# EAGLE library part LED_DISPLAY_CLOCK_1080-1182-ND (library custom)
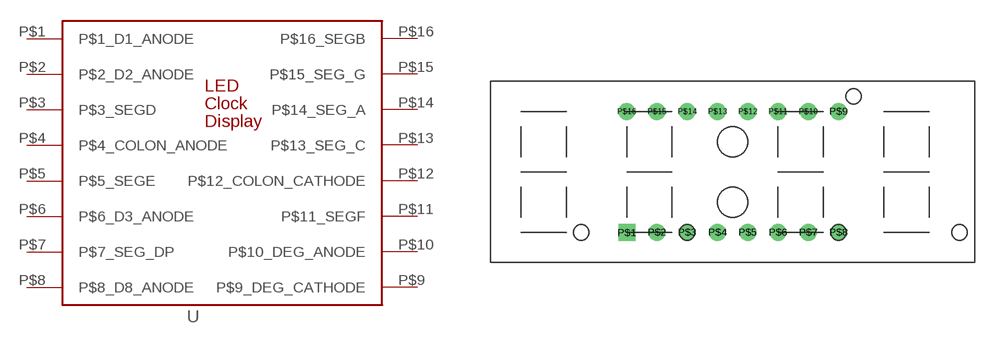
[diagram p41: symbol with the pads of LED_DISPLAY_CLOCK_1080-1182-ND; footprint LED_DISPLAY_CLOCK_1080-1182-ND]

Designator prefix -

## LED_DISPLAY_CLOCK_1080-1182-ND  [LED_DISPLAY_CLOCK_1080-1182-ND]
P$1  P$1_D1_ANODE
P$2  P$2_D2_ANODE
P$3  P$3_SEGD
P$4  P$4_COLON_ANODE
P$5  P$5_SEGE
P$6  P$6_D3_ANODE
P$7  P$7_SEG_DP
P$8  P$8_D8_ANODE
P$9  P$9_DEG_CATHODE
P$10  P$10_DEG_ANODE
P$11  P$11_SEGF
P$12  P$12_COLON_CATHODE
P$13  P$13_SEG_C
P$14  P$14_SEG_A
P$15  P$15_SEG_G
P$16  P$16_SEGB

## Footprint LED_DISPLAY_CLOCK_1080-1182-ND (pad centres in mm)
drill 0.914 square: P$1 -8.89,-5.08
drill 0.9 round: P$2 -6.35,-5.08; P$3 -3.81,-5.08; P$4 -1.27,-5.08; P$5 1.27,-5.08; P$6 3.81,-5.08; P$7 6.35,-5.08; P$8 8.89,-5.08; P$9 8.89,5.08; P$10 6.35,5.08; P$11 3.81,5.08; P$12 1.27,5.08; P$13 -1.27,5.08; P$14 -3.81,5.08; P$15 -6.35,5.08; P$16 -8.89,5.08